# Altium footprint library RJ45.PcbLib: 1 footprints
Each footprint in its own frame and in the unit in brackets; x right, y up, seen from the top. Pads: shape width x height; smd on the part's side, far side on the other; paste and mask are expansions set on the pad; w line width, h text height; cw(c..) or ccw(c..) is an arc to the next point about the centre after c.
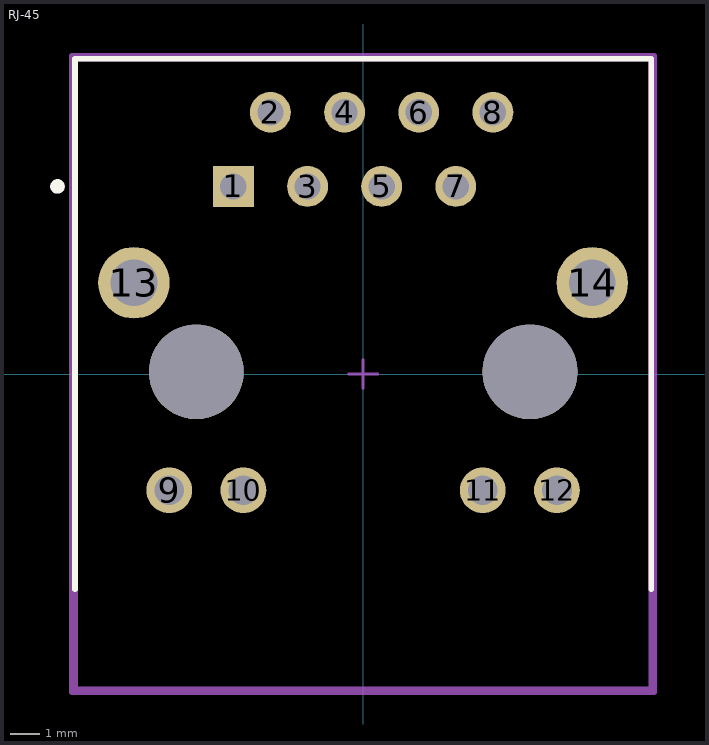
[diagram p0: the footprint, top view; thin cyan lines are the x and y axes]

## RJ-45 [mm] "RJ-45  connector"
pads (16):
  rect 1.4x1.4 hole 0.9 paste-2539.97 mask+0: 1(-4.445,6.425)
  round 1.4 hole 0.9 paste-2539.97 mask+0: 2(-3.175,8.965) 3(-1.905,6.425) 4(-0.635,8.965) 5(0.635,6.425) 6(1.905,8.965) 7(3.175,6.425) 8(4.445,8.965)
  round 1.57 hole 1.02 paste-2539.97 mask+0: 9(-6.64,-3.985) 10(-4.1,-3.985) 11(4.1,-3.985) 12(6.64,-3.985)
  round 2.45 hole 1.6 paste-2539.97 mask+0: 13(-7.85,3.125) 14(7.85,3.125)
  round 3.25 hole 3.25 unplated paste-2539.97 mask+0: ""(-5.715,0.075) ""(5.715,0.075)
Top Overlay:
  circle w0.25: c-10.47,6.425 r0.125
  lines w0.2: -9.87,-7.375 -9.87,10.8 9.87,10.8 9.87,-7.375
Top Assembly:
  lines w0.2: -9.97,-10.9 9.97,-10.9 9.97,10.9 -9.97,10.9 -9.97,-10.9
  text ".Designator" at 0,-0.001 h1
Top 3D Body:
  lines w0.2: -9.87,-10.8 9.87,-10.8 9.87,10.8 -9.87,10.8 -9.87,-10.8
Top Courtyard:
  lines w0.2: -9.97,-10.9 9.97,-10.9 9.97,10.9 -9.97,10.9 -9.97,-10.9
Top Component Center:
  lines w0.1: -0.5,0 0.5,0 ; 0,-0.5 0,0.5
3D body "Conn_TE_Connectivity_5-2301994-9_eec.STEP": height 0.25, standoff 0, extent -9.97,-10.9 9.97,10.9